# Altium schematic symbol library 150066RG74000.Schlib: 1 symbol
Pins are listed as number, name and electrical type; pins without a type are passive.

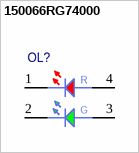
[diagram p0: symbol 150066RG74000]

## 150066RG74000
designator OL?  (value not drawn)
pins: 1 CC, 2 AB, 3 AG, 4 AR
text: R; G